# EAGLE library part TL5209 (library eagle-book)
Texas Instruments' Low-noise Low-dropout (LDO) Regulator
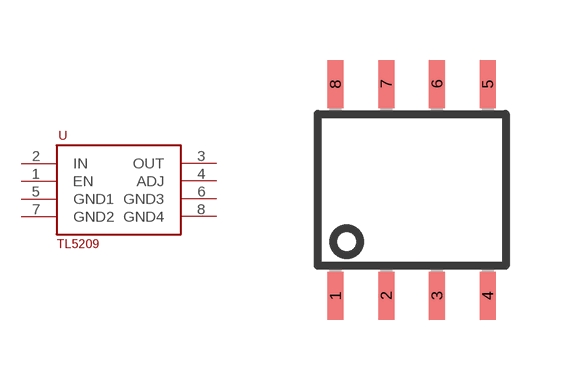
[diagram p13: symbol with the pads of PDSO-G08; footprint PDSO-G08]

Designator prefix U

## TL5209  [PDSO-G08]
1  EN
2  IN
3  OUT
4  ADJ
5  GND1
6  GND3
7  GND2
8  GND4

## Footprint PDSO-G08 (pad centres in mm)
8-pin Shrink small outline package (SSOP)
smd 0.4 x 1.2: 1 -1.905,-2.65; 2 -0.635,-2.65; 3 0.635,-2.65; 4 1.905,-2.65; 5 1.905,2.65; 6 0.635,2.65; 7 -0.635,2.65; 8 -1.905,2.65